# EAGLE library part TPS2511-MSOP8 (library tps2511)
TPS2511 in MSOP 8 pin package Library downloaded from https://github.com/cutnop/Cell-Phone-Charge/tree/master/LBR%20-%20Element14 Pin assignment corrected by Konrad Połys (k13.pl)
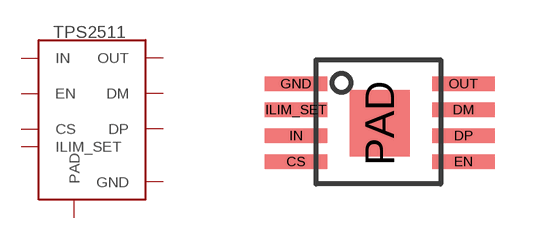
[diagram p1: symbol with the pads of MSOP-8; footprint MSOP-8]

Designator prefix $U

## TPS2511-MSOP8  [MSOP-8]
CS  CS
DM  DM
DP  DP
EN  EN
GND  GND  pwr
ILIM_SET  ILIM_SET
IN  IN  pwr
OUT  OUT  pwr
PAD  PAD  pwr

## Footprint MSOP-8 (pad centres in mm)
smd 1.575 x 0.356: CS -5.457,0.56; DM -1.27,1.86; DP -1.27,1.21; EN -1.27,0.56; GND -5.457,2.51; ILIM_SET -5.457,1.86; IN -5.457,1.21; OUT -1.27,2.51
smd 1.5 x 1.65: PAD -3.365,1.524